# EAGLE library part WSSFM10R2 (library WSSFM10R2)
BREAKOUT
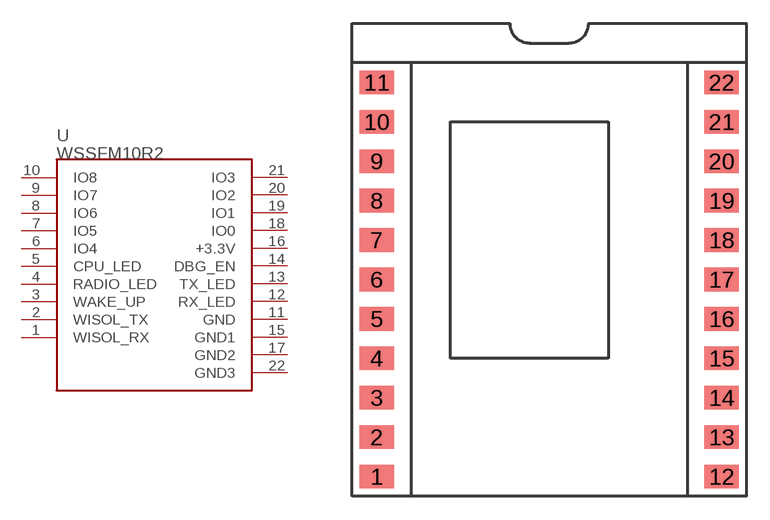
[diagram p0: symbol with the pads of BREAKOUT; footprint BREAKOUT]

Designator prefix -

## WSSFM10R2BREAKOUT  [BREAKOUT]
1  WISOL_RX
2  WISOL_TX
3  WAKE_UP
4  RADIO_LED
5  CPU_LED
6  IO4
7  IO5
8  IO6
9  IO7
10  IO8
11  GND
12  RX_LED
13  TX_LED
14  DBG_EN
15  GND1
16  +3.3V
17  GND2
18  IO0
19  IO1
20  IO2
21  IO3
22  GND3

## Footprint BREAKOUT (pad centres in mm)
BREAKOUT
smd 2.223 x 1.524: 1 0.318,0; 2 0.318,2.54; 3 0.318,5.08; 4 0.318,7.62; 5 0.318,10.16; 6 0.318,12.7; 7 0.318,15.24; 8 0.318,17.78; 9 0.318,20.32; 10 0.318,22.86; 11 0.318,25.4; 12 22.543,0; 13 22.543,2.54; 14 22.543,5.08; 15 22.543,7.62; 16 22.543,10.16; 17 22.543,12.7; 18 22.543,15.24; 19 22.543,17.78; 20 22.543,20.32; 21 22.543,22.86; 22 22.543,25.4